# EAGLE library part AX88796 (library xess)
ASIX 10/100 Ethernet MAC+PHY
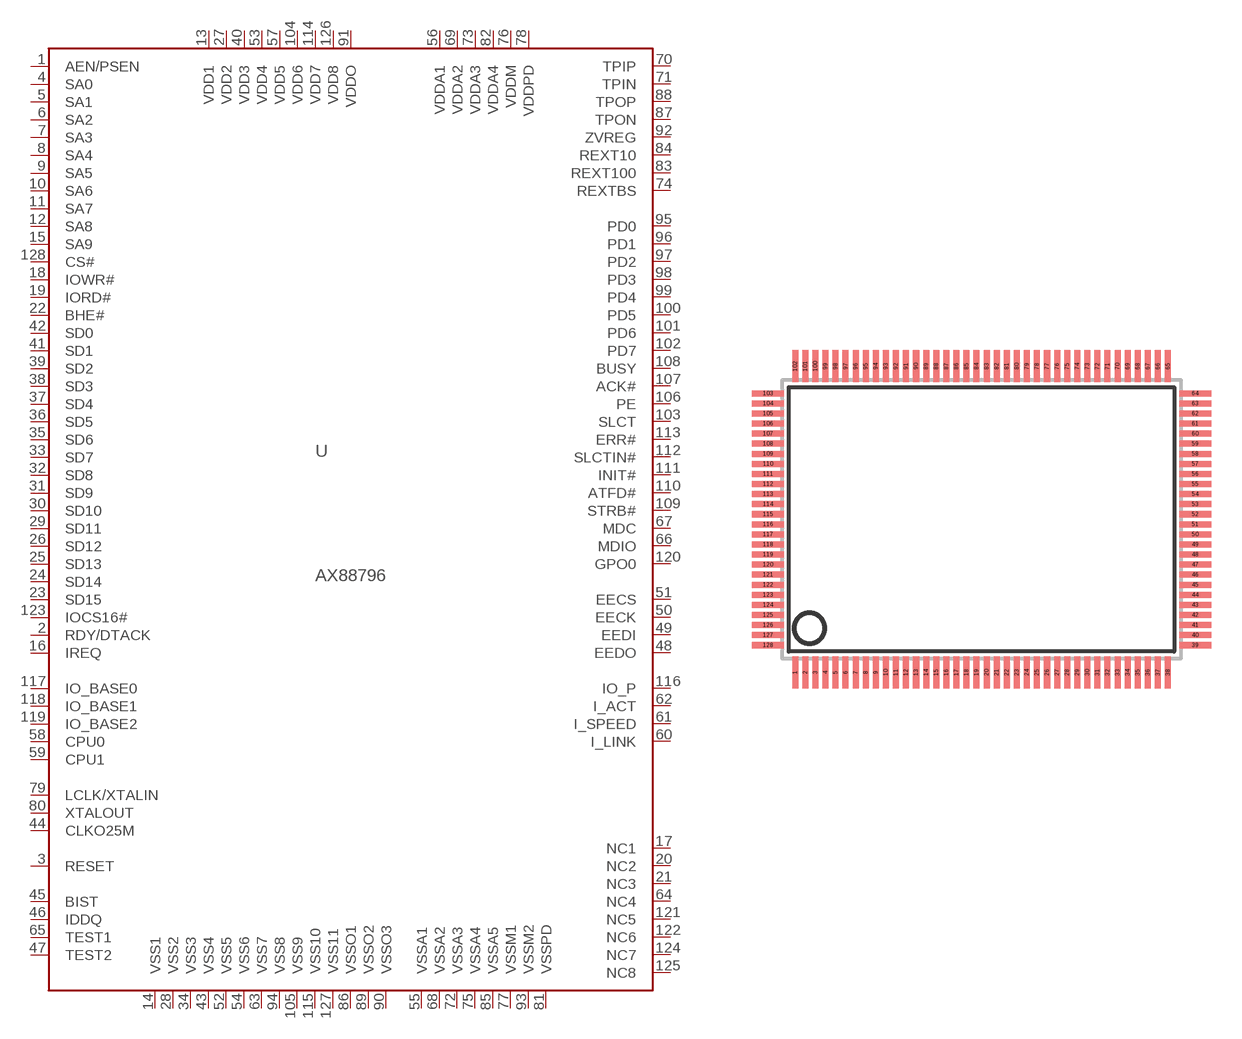
[diagram p21: symbol with the pads of LQFP128; footprint LQFP128]

Designator prefix U

## AX88796  [LQFP128]
1  AEN/PSEN  in
2  RDY/DTACK  out
3  RESET  in
4  SA0  in
5  SA1  in
6  SA2  in
7  SA3  in
8  SA4  in
9  SA5  in
10  SA6  in
11  SA7  in
12  SA8  in
13  VDD1  pwr
14  VSS1  sup
15  SA9  in
16  IREQ  out
17  NC1  nc
18  IOWR#  in
19  IORD#  in
20  NC2  nc
21  NC3  nc
22  BHE#  in
23  SD15
24  SD14
25  SD13
26  SD12
27  VDD2  pwr
28  VSS2  sup
29  SD11
30  SD10
31  SD9
32  SD8
33  SD7
34  VSS3  sup
35  SD6
36  SD5
37  SD4
38  SD3
39  SD2
40  VDD3  pwr
41  SD1
42  SD0
43  VSS4  sup
44  CLKO25M  out
45  BIST  in
46  IDDQ  in
47  TEST2  in
48  EEDO  in
49  EEDI  out
50  EECK  out
51  EECS  out
52  VSS5  sup
53  VDD4  pwr
54  VSS6  sup
55  VSSA1  sup
56  VDDA1  pwr
57  VDD5  pwr
58  CPU0  in
59  CPU1  in
60  I_LINK  out
61  I_SPEED  out
62  I_ACT  out
63  VSS7  sup
64  NC4  nc
65  TEST1  in
66  MDIO
67  MDC  out
68  VSSA2  sup
69  VDDA2  pwr
70  TPIP  in
71  TPIN  in
72  VSSA3  sup
73  VDDA3  pwr
74  REXTBS  in
75  VSSA4  sup
76  VDDM  pwr
77  VSSM1  sup
78  VDDPD  pwr
79  LCLK/XTALIN  in
80  XTALOUT  out
81  VSSPD  sup
82  VDDA4  pwr
83  REXT100  in
84  REXT10  in
85  VSSA5  sup
86  VSSO1  sup
87  TPON  out
88  TPOP  out
89  VSSO2  sup
90  VSSO3  sup
91  VDDO  pwr
92  ZVREG  out
93  VSSM2  sup
94  VSS8  sup
95  PD0
96  PD1
97  PD2
98  PD3
99  PD4
100  PD5
101  PD6
102  PD7
103  SLCT  in
104  VDD6  pwr
105  VSS9  sup
106  PE  in
107  ACK#  in
108  BUSY  in
109  STRB#  out
110  ATFD#  out
111  INIT#  out
112  SLCTIN#  out
113  ERR#  in
114  VDD7  pwr
115  VSS10  sup
116  IO_P  in
117  IO_BASE0  in
118  IO_BASE1  in
119  IO_BASE2  in
120  GPO0  out
121  NC5  nc
122  NC6  nc
123  IOCS16#  out
124  NC7  nc
125  NC8  nc
126  VDD8  pwr
127  VSS11  sup
128  CS#  in

## Footprint LQFP128 (pad centres in mm)
smd 0.3 x 1.6: 1 -9.25,-7.6; 2 -8.75,-7.6; 3 -8.25,-7.6; 4 -7.75,-7.6; 5 -7.25,-7.6; 6 -6.75,-7.6; 7 -6.25,-7.6; 8 -5.75,-7.6; 9 -5.25,-7.6; 10 -4.75,-7.6; 11 -4.25,-7.6; 12 -3.75,-7.6; 13 -3.25,-7.6; 14 -2.75,-7.6; 15 -2.25,-7.6; 16 -1.75,-7.6; 17 -1.25,-7.6; 18 -0.75,-7.6; 19 -0.25,-7.6; 20 0.25,-7.6; 21 0.75,-7.6; 22 1.25,-7.6; 23 1.75,-7.6; 24 2.25,-7.6; 25 2.75,-7.6; 26 3.25,-7.6; 27 3.75,-7.6; 28 4.25,-7.6; 29 4.75,-7.6; 30 5.25,-7.6; 31 5.75,-7.6; 32 6.25,-7.6; 33 6.75,-7.6; 34 7.25,-7.6; 35 7.75,-7.6; 36 8.25,-7.6; 37 8.75,-7.6; 38 9.25,-7.6; 65 9.25,7.6; 66 8.75,7.6; 67 8.25,7.6; 68 7.75,7.6; 69 7.25,7.6; 70 6.75,7.6; 71 6.25,7.6; 72 5.75,7.6; 73 5.25,7.6; 74 4.75,7.6; 75 4.25,7.6; 76 3.75,7.6; 77 3.25,7.6; 78 2.75,7.6; 79 2.25,7.6; 80 1.75,7.6; 81 1.25,7.6; 82 0.75,7.6; 83 0.25,7.6; 84 -0.25,7.6; 85 -0.75,7.6; 86 -1.25,7.6; 87 -1.75,7.6; 88 -2.25,7.6; 89 -2.75,7.6; 90 -3.25,7.6; 91 -3.75,7.6; 92 -4.25,7.6; 93 -4.75,7.6; 94 -5.25,7.6; 95 -5.75,7.6; 96 -6.25,7.6; 97 -6.75,7.6; 98 -7.25,7.6; 99 -7.75,7.6; 100 -8.25,7.6; 101 -8.75,7.6; 102 -9.25,7.6
smd 1.6 x 0.3: 39 10.6,-6.25; 40 10.6,-5.75; 41 10.6,-5.25; 42 10.6,-4.75; 43 10.6,-4.25; 44 10.6,-3.75; 45 10.6,-3.25; 46 10.6,-2.75; 47 10.6,-2.25; 48 10.6,-1.75; 49 10.6,-1.25; 50 10.6,-0.75; 51 10.6,-0.25; 52 10.6,0.25; 53 10.6,0.75; 54 10.6,1.25; 55 10.6,1.75; 56 10.6,2.25; 57 10.6,2.75; 58 10.6,3.25; 59 10.6,3.75; 60 10.6,4.25; 61 10.6,4.75; 62 10.6,5.25; 63 10.6,5.75; 64 10.6,6.25; 103 -10.6,6.25; 104 -10.6,5.75; 105 -10.6,5.25; 106 -10.6,4.75; 107 -10.6,4.25; 108 -10.6,3.75; 109 -10.6,3.25; 110 -10.6,2.75; 111 -10.6,2.25; 112 -10.6,1.75; 113 -10.6,1.25; 114 -10.6,0.75; 115 -10.6,0.25; 116 -10.6,-0.25; 117 -10.6,-0.75; 118 -10.6,-1.25; 119 -10.6,-1.75; 120 -10.6,-2.25; 121 -10.6,-2.75; 122 -10.6,-3.25; 123 -10.6,-3.75; 124 -10.6,-4.25; 125 -10.6,-4.75; 126 -10.6,-5.25; 127 -10.6,-5.75; 128 -10.6,-6.25